# EAGLE library part 2X5_0.05"_CORTEX_DEBUG (library con-cortex)
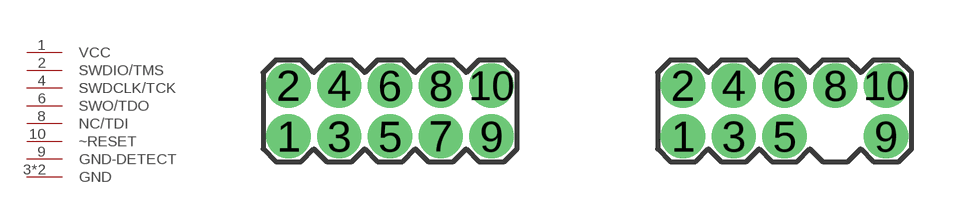
[diagram p1: symbol with the pads of 2X5_0.05"_TH_NS; footprints 2X5_0.05"_TH_NS, 2X5_0.05"_TH_KEYED_NS]

Designator prefix -

## 2X5_0.05"_CORTEX_DEBUGTH_NOKEY_UNSHROUDED  [2X5_0.05"_TH_NS]
1  VCC
2  SWDIO/TMS
3  GND
4  SWDCLK/TCK
5  GND
6  SWO/TDO
8  NC/TDI
9  GND-DETECT
10  ~RESET

## 2X5_0.05"_CORTEX_DEBUGTH_KEYED_UNSHROUDED  [2X5_0.05"_TH_KEYED_NS]
Pads as for 2X5_0.05"_TH_NS

## 2X5_0.05"_CORTEX_DEBUGSMD_UNSHROUDED  [2X5_0.05"_SMD_NS]
Pads as for 2X5_0.05"_TH_NS

## 2X5_0.05"_CORTEX_DEBUGSMD_SHROUDED  [2X5_0.05"_SMD_SH]
Pads as for 2X5_0.05"_TH_NS

## Footprint 2X5_0.05"_TH_NS (pad centres in mm)
2x5 0.05" pitch, through-hole, unshrouded header from FCI, product number 20021111-00010T4LF http://www.digikey.com/product-detail/en/20021111-00010T4LF/609-3712-ND/2209072
drill 0.6 pad 0.95: 1 -2.54,-0.635; 2 -2.54,0.635; 3 -1.27,-0.635; 4 -1.27,0.635; 5 0,-0.635; 6 0,0.635; 7 1.27,-0.635; 8 1.27,0.635; 9 2.54,-0.635; 10 2.54,0.635

## Footprint 2X5_0.05"_TH_KEYED_NS (pad centres in mm)
2x5 0.05" pitch, through-hole, unshrouded header from FCI, product number 20021111-00010T4LF http://www.digikey.com/product-detail/en/20021111-00010T4LF/609-3712-ND/2209072
drill 0.6 pad 0.95: 1 -2.54,-0.635; 2 -2.54,0.635; 3 -1.27,-0.635; 4 -1.27,0.635; 5 0,-0.635; 6 0,0.635; 8 1.27,0.635; 9 2.54,-0.635; 10 2.54,0.635

## Footprint 2X5_0.05"_SMD_NS (pad centres in mm)
2x5, 0.05" pitch, surface-mount, unshrouded header from FCI, part number: 20021121-00010C4LF http://www.digikey.com/product-detail/en/20021121-00010C4LF/609-3695-1-ND/2209147
smd 0.5 x 2.5: 1 -2.54,-1.905; 2 -2.54,1.905; 3 -1.27,-1.905; 4 -1.27,1.905; 5 0,-1.905; 6 0,1.905; 7 1.27,-1.905; 8 1.27,1.905; 9 2.54,-1.905; 10 2.54,1.905

## Footprint 2X5_0.05"_SMD_SH (pad centres in mm)
2x5 0.05" pitch, surface mount, shrouded header from FCI, part number: 20021221-00010C4LF http://www.digikey.com/product-detail/en/20021221-00010C4LF/609-3700-1-ND/2209154
smd 0.5 x 2.5: 1 -2.54,-1.905; 2 -2.54,1.905; 3 -1.27,-1.905; 4 -1.27,1.905; 5 0,-1.905; 6 0,1.905; 7 1.27,-1.905; 8 1.27,1.905; 9 2.54,-1.905; 10 2.54,1.905